# EAGLE library part JON_LIB_AVRISP-6 (library MAAV_13v1)
PIN HEADER
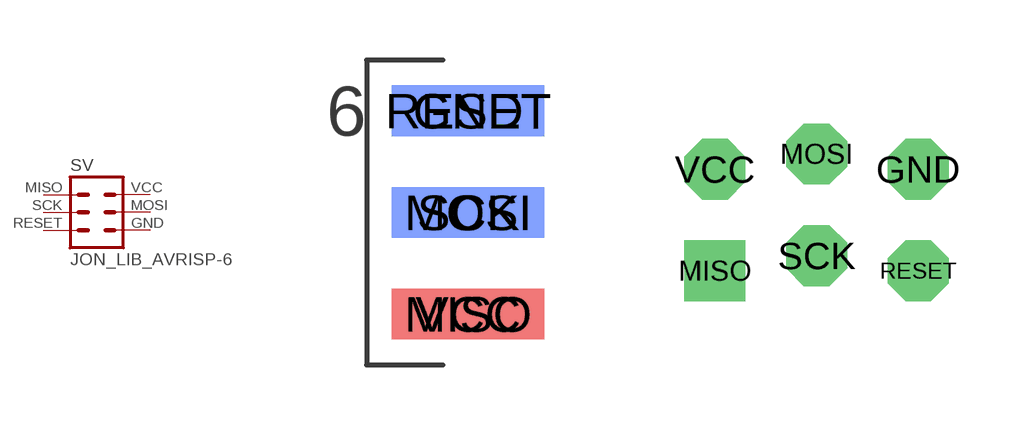
[diagram p0: symbol with the pads of JON_LIB_AVRISP-6-SMD; footprints JON_LIB_AVRISP-6-SMD, JON_LIB_AVRISP-6_STAGGERED]

Designator prefix SV

## JON_LIB_AVRISP-63X2_SMD  [JON_LIB_AVRISP-6-SMD]
GND  GND  pas
MISO  MISO  pas
MOSI  MOSI  pas
RESET  RESET  pas
SCK  SCK  pas
VCC  VCC  pas

## JON_LIB_AVRISP-63X2_STAGGERED  [JON_LIB_AVRISP-6_STAGGERED]
Pads as for JON_LIB_AVRISP-6-SMD

## JON_LIB_AVRISP-63X2_STANDARD (OC_FARNELL: unknown; OC_NEWARK: unknown)  [JON_LIB_AVRISP-6]
Pads as for JON_LIB_AVRISP-6-SMD

## Footprint JON_LIB_AVRISP-6-SMD (pad centres in mm)
smd 3.81 x 1.27: GND 0.635,2.54; MOSI 0.635,0; VCC 0.635,-2.54
smd 3.81 x 1.27 bottom: MISO 0.635,-2.54; RESET 0.635,2.54; SCK 0.635,0

## Footprint JON_LIB_AVRISP-6_STAGGERED (pad centres in mm)
drill 1.016 octagon: GND 2.54,1.079; MOSI 0,1.46; RESET 2.54,-1.46; SCK 0,-1.079; VCC -2.54,1.079
drill 1.016 square: MISO -2.54,-1.46

## Footprint JON_LIB_AVRISP-6 (pad centres in mm)
PIN HEADER
drill 1.016 octagon: GND 2.54,1.27; MOSI 0,1.27; RESET 2.54,-1.27; SCK 0,-1.27; VCC -2.54,1.27
drill 1.016: MISO -2.54,-1.27